# EAGLE library part 2514- (library con-3m)
3M (TM) Pak 100 4-Wall Header 3M (TM) .100" x .100" 4-Wall Header, Low Profile, D2500 Series -5: Right angle, through hole -6: Straight (vertical), through hole -6V: Straight (vertical), surface mount Source: 3M
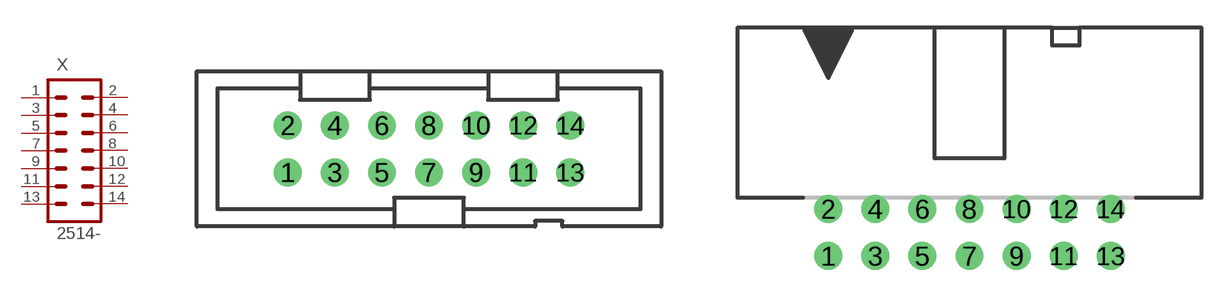
[diagram p28: symbol with the pads of PAK100/2500-14; footprints PAK100/2500-14, PAK100/2500-5-14]

Designator prefix X

## 2514-6  [PAK100/2500-14]
1  1  pas
2  2  pas
3  3  pas
4  4  pas
5  5  pas
6  6  pas
7  7  pas
8  8  pas
9  9  pas
10  10  pas
11  11  pas
12  12  pas
13  13  pas
14  14  pas

## 2514-5  [PAK100/2500-5-14]
Pads as for PAK100/2500-14

## 2514-6V  [PAK100/2500-6V-14]
Pads as for PAK100/2500-14

## Footprint PAK100/2500-14 (pad centres in mm)
3M (TM) Pak 100 4-Wall Header Straight Source: 3M
drill 1 pad 1.422: 1 -7.62,-1.27; 2 -7.62,1.27; 3 -5.08,-1.27; 4 -5.08,1.27; 5 -2.54,-1.27; 6 -2.54,1.27; 7 0,-1.27; 8 0,1.27; 9 2.54,-1.27; 10 2.54,1.27; 11 5.08,-1.27; 12 5.08,1.27; 13 7.62,-1.27; 14 7.62,1.27

## Footprint PAK100/2500-5-14 (pad centres in mm)
3M (TM) Pak 100 4-Wall Header Right Angle Source: 3M
drill 1 pad 1.422: 1 -20.16,-12.345; 2 -20.16,-9.805; 3 -17.62,-12.345; 4 -17.62,-9.805; 5 -15.08,-12.345; 6 -15.08,-9.805; 7 -12.54,-12.345; 8 -12.54,-9.805; 9 -10,-12.345; 10 -10,-9.805; 11 -7.46,-12.345; 12 -7.46,-9.805; 13 -4.92,-12.345; 14 -4.92,-9.805

## Footprint PAK100/2500-6V-14 (pad centres in mm)
3M (TM) Pak 100 4-Wall Header Straight Source: 3M
smd 1.27 x 5.08: 1 -7.62,-3.429; 2 -7.62,3.429; 3 -5.08,-3.429; 4 -5.08,3.429; 5 -2.54,-3.429; 6 -2.54,3.429; 7 0,-3.429; 8 0,3.429; 9 2.54,-3.429; 10 2.54,3.429; 11 5.08,-3.429; 12 5.08,3.429; 13 7.62,-3.429; 14 7.62,3.429